# Altium schematic symbol library Diode_SOT23.Schlib: 1 symbol
Pins are listed as number, name and electrical type; pins without a type are passive.

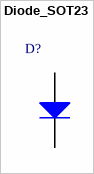
[diagram p0: symbol Diode_SOT23]

## Diode_SOT23
designator D?
pins: 1 A, 3 K